# EAGLE library part I-UC-V0 (library digital-toy)
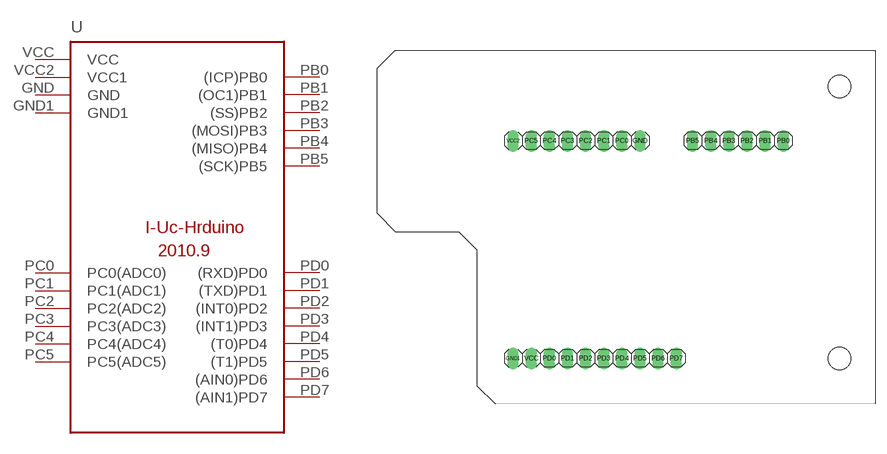
[diagram p12: symbol with the pads of I-UC-V0-EXT-V0; footprint I-UC-V0-EXT-V0]

Designator prefix -

## I-UC-V0/EXT-V0  [I-UC-V0-EXT-V0]
GND  GND
GND1  GND1
PB0  (ICP)PB0
PB1  (OC1)PB1
PB2  (SS)PB2
PB3  (MOSI)PB3
PB4  (MISO)PB4
PB5  (SCK)PB5
PC0  PC0(ADC0)
PC1  PC1(ADC1)
PC2  PC2(ADC2)
PC3  PC3(ADC3)
PC4  PC4(ADC4)
PC5  PC5(ADC5)
PD0  (RXD)PD0
PD1  (TXD)PD1
PD2  (INT0)PD2
PD3  (INT1)PD3
PD4  (T0)PD4
PD5  (T1)PD5
PD6  (AIN0)PD6
PD7  (AIN1)PD7
VCC  VCC
VCC2  VCC1

## Footprint I-UC-V0-EXT-V0 (pad centres in mm)
drill 1.016 long: GND 48.26,36.83; GND1 30.48,6.35; PB0 68.326,36.83; PB1 65.786,36.83; PB2 63.246,36.83; PB3 60.706,36.83; PB4 58.166,36.83; PB5 55.626,36.83; PC0 45.72,36.83; PC1 43.18,36.83; PC2 40.64,36.83; PC3 38.1,36.83; PC4 35.56,36.83; PC5 33.02,36.83; PD0 35.56,6.35; PD1 38.1,6.35; PD2 40.64,6.35; PD3 43.18,6.35; PD4 45.72,6.35; PD5 48.26,6.35; PD6 50.8,6.35; PD7 53.34,6.35; VCC 33.02,6.35; VCC2 30.48,36.83
hole 3.2 at 76.2,44.45
hole 3.2 at 76.2,6.35